# EAGLE library part CD74HC*4046 (library Clock)
IC PLL W/VCO Datasheet <http://www.ti.com/lit/ds/symlink/cd74hc4046a.pdf>
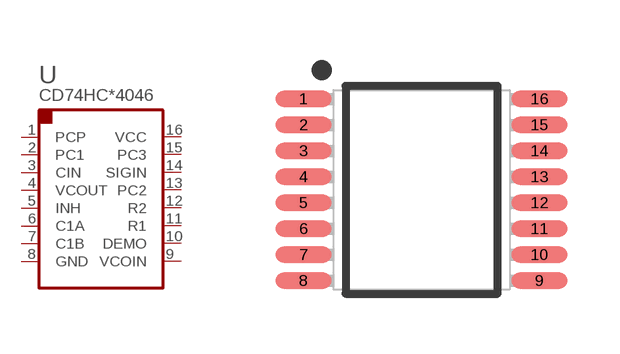
[diagram p0: symbol with the pads of TSSOP-16; footprint TSSOP-16]

Designator prefix U

## CD74HC4046APW (PARTNO: 01-100535-00)  [TSSOP-16]
1  PCP  out
2  PC1  out
3  CIN  in
4  VCOUT  out
5  INH  in
6  C1A  pas
7  C1B  pas
8  GND  pwr
9  VCOIN  in
10  DEMO  out
11  R1  pas
12  R2  pas
13  PC2  out
14  SIGIN  in
15  PC3  out
16  VCC  pwr

## Footprint TSSOP-16 (pad centres in mm)
TSSOP16, 16-Leads, Body 5.00x4.40mm, Pitch 0.65mm, IPC Medium Density
smd 1.4 x 0.4: 1 -2.95,2.275; 2 -2.95,1.625; 3 -2.95,0.975; 4 -2.95,0.325; 5 -2.95,-0.325; 6 -2.95,-0.975; 7 -2.95,-1.625; 8 -2.95,-2.275; 9 2.95,-2.275; 10 2.95,-1.625; 11 2.95,-0.975; 12 2.95,-0.325; 13 2.95,0.325; 14 2.95,0.975; 15 2.95,1.625; 16 2.95,2.275